# Altium footprint library QFP_Shrink_Rect_30P_Side_L.PcbLib: 12 footprints (part 1 of 2)
Each footprint in its own frame and in the unit in brackets; x right, y up, seen from the top. Pads: shape width x height; smd on the part's side, far side on the other; paste and mask are expansions set on the pad; w line width, h text height; cw(c..) or ccw(c..) is an arc to the next point about the centre after c.
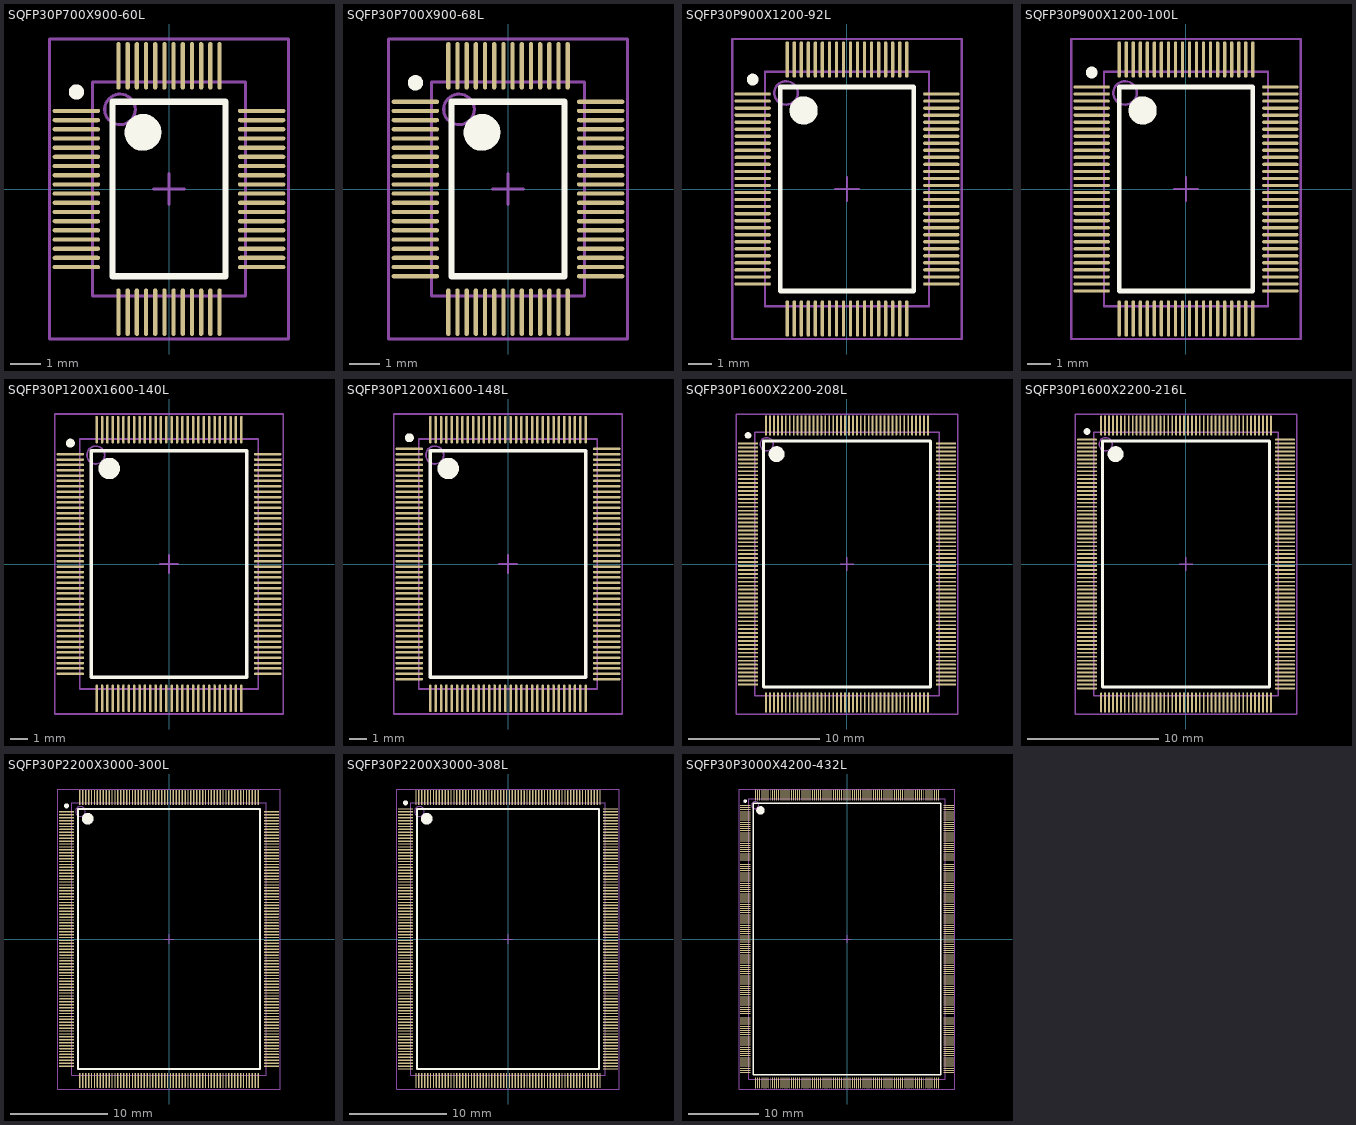
[diagram p0: the footprints below, top view; thin cyan lines are the x and y axes]

## SQFP30P700X900-60L [mm] "Shrink QFP, 60-Leads, Body 7x5 mm, Pitch 0.3mm, IPC High Density"
height 1.7
pads (60):
  oval 1.55x0.14 smd: 1(-3.025,2.55) 2(-3.025,2.25) 3(-3.025,1.95) 4(-3.025,1.65) 5(-3.025,1.35) 6(-3.025,1.05) 7(-3.025,0.75) 8(-3.025,0.45) 9(-3.025,0.15) 10(-3.025,-0.15) 11(-3.025,-0.45) 12(-3.025,-0.75) 13(-3.025,-1.05) 14(-3.025,-1.35) 15(-3.025,-1.65) 16(-3.025,-1.95) 17(-3.025,-2.25) 18(-3.025,-2.55) 31(3.025,-2.55) 32(3.025,-2.25) 33(3.025,-1.95) 34(3.025,-1.65) 35(3.025,-1.35) 36(3.025,-1.05) 37(3.025,-0.75) 38(3.025,-0.45) 39(3.025,-0.15) 40(3.025,0.15) 41(3.025,0.45) 42(3.025,0.75) 43(3.025,1.05) 44(3.025,1.35) 45(3.025,1.65) 46(3.025,1.95) 47(3.025,2.25) 48(3.025,2.55)
  oval 0.14x1.55 smd: 19(-1.65,-4.025) 20(-1.35,-4.025) 21(-1.05,-4.025) 22(-0.75,-4.025) 23(-0.45,-4.025) 24(-0.15,-4.025) 25(0.15,-4.025) 26(0.45,-4.025) 27(0.75,-4.025) 28(1.05,-4.025) 29(1.35,-4.025) 30(1.65,-4.025) 49(1.65,4.025) 50(1.35,4.025) 51(1.05,4.025) 52(0.75,4.025) 53(0.45,4.025) 54(0.15,4.025) 55(-0.15,4.025) 56(-0.45,4.025) 57(-0.75,4.025) 58(-1.05,4.025) 59(-1.35,4.025) 60(-1.65,4.025)
Top Overlay:
  circle w0.6: c-0.85,1.85 r0.3
  circle w0.25: c-3.025,3.17 r0.125
  lines w0.2: -1.85,-2.85 1.85,-2.85 1.85,2.85 -1.85,2.85 -1.85,-2.85
Mechanical 13:
  circle w0.1: c-1.6,2.6 r0.5
  lines w0.1: -2.5,-3.5 2.5,-3.5 2.5,3.5 -2.5,3.5 -2.5,-3.5
Mechanical 15:
  lines w0.1: -0.5,0 0.5,0 ; 0,-0.5 0,0.5 ; -3.9,-4.9 3.9,-4.9 3.9,4.9 -3.9,4.9 -3.9,-4.9
3D body: height 1.7, standoff 0, extent -2.5,-3.5 2.5,3.5

## SQFP30P700X900-68L [mm] "Shrink QFP, 68-Leads, Body 7x5 mm, Pitch 0.3mm, IPC High Density"
height 1.7
pads (68):
  oval 1.55x0.14 smd: 1(-3.025,2.85) 2(-3.025,2.55) 3(-3.025,2.25) 4(-3.025,1.95) 5(-3.025,1.65) 6(-3.025,1.35) 7(-3.025,1.05) 8(-3.025,0.75) 9(-3.025,0.45) 10(-3.025,0.15) 11(-3.025,-0.15) 12(-3.025,-0.45) 13(-3.025,-0.75) 14(-3.025,-1.05) 15(-3.025,-1.35) 16(-3.025,-1.65) 17(-3.025,-1.95) 18(-3.025,-2.25) 19(-3.025,-2.55) 20(-3.025,-2.85) 35(3.025,-2.85) 36(3.025,-2.55) 37(3.025,-2.25) 38(3.025,-1.95) 39(3.025,-1.65) 40(3.025,-1.35) 41(3.025,-1.05) 42(3.025,-0.75) 43(3.025,-0.45) 44(3.025,-0.15) 45(3.025,0.15) 46(3.025,0.45) 47(3.025,0.75) 48(3.025,1.05) 49(3.025,1.35) 50(3.025,1.65) 51(3.025,1.95) 52(3.025,2.25) 53(3.025,2.55) 54(3.025,2.85)
  oval 0.14x1.55 smd: 21(-1.95,-4.025) 22(-1.65,-4.025) 23(-1.35,-4.025) 24(-1.05,-4.025) 25(-0.75,-4.025) 26(-0.45,-4.025) 27(-0.15,-4.025) 28(0.15,-4.025) 29(0.45,-4.025) 30(0.75,-4.025) 31(1.05,-4.025) 32(1.35,-4.025) 33(1.65,-4.025) 34(1.95,-4.025) 55(1.95,4.025) 56(1.65,4.025) 57(1.35,4.025) 58(1.05,4.025) 59(0.75,4.025) 60(0.45,4.025) 61(0.15,4.025) 62(-0.15,4.025) 63(-0.45,4.025) 64(-0.75,4.025) 65(-1.05,4.025) 66(-1.35,4.025) 67(-1.65,4.025) 68(-1.95,4.025)
Top Overlay:
  circle w0.25: c-3.025,3.47 r0.125
  circle w0.6: c-0.85,1.85 r0.3
  lines w0.2: -1.85,-2.85 -1.85,2.85 1.85,2.85 1.85,-2.85 -1.85,-2.85
Mechanical 13:
  circle w0.1: c-1.6,2.6 r0.5
  lines w0.1: -2.5,-3.5 -2.5,3.5 2.5,3.5 2.5,-3.5 -2.5,-3.5
Mechanical 15:
  lines w0.1: -0.5,0 0.5,0 ; 0,-0.5 0,0.5 ; -3.9,-4.9 -3.9,4.9 3.9,4.9 3.9,-4.9 -3.9,-4.9
3D body: height 1.7, standoff 0, extent -2.5,-3.5 2.5,3.5

## SQFP30P900X1200-92L [mm] "Shrink QFP, 92-Leads, Body 10x7 mm, Pitch 0.3mm, IPC High Density"
height 2.2
pads (92):
  oval 1.55x0.14 smd: 1(-4.025,4.05) 2(-4.025,3.75) 3(-4.025,3.45) 4(-4.025,3.15) 5(-4.025,2.85) 6(-4.025,2.55) 7(-4.025,2.25) 8(-4.025,1.95) 9(-4.025,1.65) 10(-4.025,1.35) 11(-4.025,1.05) 12(-4.025,0.75) 13(-4.025,0.45) 14(-4.025,0.15) 15(-4.025,-0.15) 16(-4.025,-0.45) 17(-4.025,-0.75) 18(-4.025,-1.05) 19(-4.025,-1.35) 20(-4.025,-1.65) 21(-4.025,-1.95) 22(-4.025,-2.25) 23(-4.025,-2.55) 24(-4.025,-2.85) 25(-4.025,-3.15) 26(-4.025,-3.45) 27(-4.025,-3.75) 28(-4.025,-4.05) 47(4.025,-4.05) 48(4.025,-3.75) 49(4.025,-3.45) 50(4.025,-3.15) 51(4.025,-2.85) 52(4.025,-2.55) 53(4.025,-2.25) 54(4.025,-1.95) 55(4.025,-1.65) 56(4.025,-1.35) 57(4.025,-1.05) 58(4.025,-0.75) 59(4.025,-0.45) 60(4.025,-0.15) 61(4.025,0.15) 62(4.025,0.45) 63(4.025,0.75) 64(4.025,1.05) 65(4.025,1.35) 66(4.025,1.65) 67(4.025,1.95) 68(4.025,2.25) 69(4.025,2.55) 70(4.025,2.85) 71(4.025,3.15) 72(4.025,3.45) 73(4.025,3.75) 74(4.025,4.05)
  oval 0.14x1.55 smd: 29(-2.55,-5.525) 30(-2.25,-5.525) 31(-1.95,-5.525) 32(-1.65,-5.525) 33(-1.35,-5.525) 34(-1.05,-5.525) 35(-0.75,-5.525) 36(-0.45,-5.525) 37(-0.15,-5.525) 38(0.15,-5.525) 39(0.45,-5.525) 40(0.75,-5.525) 41(1.05,-5.525) 42(1.35,-5.525) 43(1.65,-5.525) 44(1.95,-5.525) 45(2.25,-5.525) 46(2.55,-5.525) 75(2.55,5.525) 76(2.25,5.525) 77(1.95,5.525) 78(1.65,5.525) 79(1.35,5.525) 80(1.05,5.525) 81(0.75,5.525) 82(0.45,5.525) 83(0.15,5.525) 84(-0.15,5.525) 85(-0.45,5.525) 86(-0.75,5.525) 87(-1.05,5.525) 88(-1.35,5.525) 89(-1.65,5.525) 90(-1.95,5.525) 91(-2.25,5.525) 92(-2.55,5.525)
Top Overlay:
  circle w0.25: c-4.025,4.67 r0.125
  circle w0.6: c-1.85,3.35 r0.3
  lines w0.2: -2.85,-4.35 -2.85,4.35 2.85,4.35 2.85,-4.35 -2.85,-4.35
Mechanical 13:
  circle w0.1: c-2.6,4.1 r0.5
  lines w0.1: -3.5,-5 -3.5,5 3.5,5 3.5,-5 -3.5,-5
Mechanical 15:
  lines w0.1: -0.5,0 0.5,0 ; 0,-0.5 0,0.5 ; -4.9,-6.4 -4.9,6.4 4.9,6.4 4.9,-6.4 -4.9,-6.4
3D body: height 2.2, standoff 0, extent -3.5,-5 3.5,5

## SQFP30P900X1200-100L [mm] "Shrink QFP, 100-Leads, Body 10x7 mm, Pitch 0.3mm, IPC High Density"
height 2.2
pads (100):
  oval 1.55x0.14 smd: 1(-4.025,4.35) 2(-4.025,4.05) 3(-4.025,3.75) 4(-4.025,3.45) 5(-4.025,3.15) 6(-4.025,2.85) 7(-4.025,2.55) 8(-4.025,2.25) 9(-4.025,1.95) 10(-4.025,1.65) 11(-4.025,1.35) 12(-4.025,1.05) 13(-4.025,0.75) 14(-4.025,0.45) 15(-4.025,0.15) 16(-4.025,-0.15) 17(-4.025,-0.45) 18(-4.025,-0.75) 19(-4.025,-1.05) 20(-4.025,-1.35) 21(-4.025,-1.65) 22(-4.025,-1.95) 23(-4.025,-2.25) 24(-4.025,-2.55) 25(-4.025,-2.85) 26(-4.025,-3.15) 27(-4.025,-3.45) 28(-4.025,-3.75) 29(-4.025,-4.05) 30(-4.025,-4.35) 51(4.025,-4.35) 52(4.025,-4.05) 53(4.025,-3.75) 54(4.025,-3.45) 55(4.025,-3.15) 56(4.025,-2.85) 57(4.025,-2.55) 58(4.025,-2.25) 59(4.025,-1.95) 60(4.025,-1.65) 61(4.025,-1.35) 62(4.025,-1.05) 63(4.025,-0.75) 64(4.025,-0.45) 65(4.025,-0.15) 66(4.025,0.15) 67(4.025,0.45) 68(4.025,0.75) 69(4.025,1.05) 70(4.025,1.35) 71(4.025,1.65) 72(4.025,1.95) 73(4.025,2.25) 74(4.025,2.55) 75(4.025,2.85) 76(4.025,3.15) 77(4.025,3.45) 78(4.025,3.75) 79(4.025,4.05) 80(4.025,4.35)
  oval 0.14x1.55 smd: 31(-2.85,-5.525) 32(-2.55,-5.525) 33(-2.25,-5.525) 34(-1.95,-5.525) 35(-1.65,-5.525) 36(-1.35,-5.525) 37(-1.05,-5.525) 38(-0.75,-5.525) 39(-0.45,-5.525) 40(-0.15,-5.525) 41(0.15,-5.525) 42(0.45,-5.525) 43(0.75,-5.525) 44(1.05,-5.525) 45(1.35,-5.525) 46(1.65,-5.525) 47(1.95,-5.525) 48(2.25,-5.525) 49(2.55,-5.525) 50(2.85,-5.525) 81(2.85,5.525) 82(2.55,5.525) 83(2.25,5.525) 84(1.95,5.525) 85(1.65,5.525) 86(1.35,5.525) 87(1.05,5.525) 88(0.75,5.525) 89(0.45,5.525) 90(0.15,5.525) 91(-0.15,5.525) 92(-0.45,5.525) 93(-0.75,5.525) 94(-1.05,5.525) 95(-1.35,5.525) 96(-1.65,5.525) 97(-1.95,5.525) 98(-2.25,5.525) 99(-2.55,5.525) 100(-2.85,5.525)
Top Overlay:
  circle w0.25: c-4.025,4.97 r0.125
  circle w0.6: c-1.85,3.35 r0.3
  lines w0.2: -2.85,-4.35 -2.85,4.35 2.85,4.35 2.85,-4.35 -2.85,-4.35
Mechanical 13:
  circle w0.1: c-2.6,4.1 r0.5
  lines w0.1: -3.5,-5 -3.5,5 3.5,5 3.5,-5 -3.5,-5
Mechanical 15:
  lines w0.1: -0.5,0 0.5,0 ; 0,-0.5 0,0.5 ; -4.9,-6.4 -4.9,6.4 4.9,6.4 4.9,-6.4 -4.9,-6.4
3D body: height 2.2, standoff 0, extent -3.5,-5 3.5,5

## SQFP30P1200X1600-140L [mm] "Shrink QFP, 140-Leads, Body 14x10 mm, Pitch 0.3mm, IPC High Density"
height 2.2
pads (140):
  oval 1.55x0.14 smd: 1(-5.525,6.15) 2(-5.525,5.85) 3(-5.525,5.55) 4(-5.525,5.25) 5(-5.525,4.95) 6(-5.525,4.65) 7(-5.525,4.35) 8(-5.525,4.05) 9(-5.525,3.75) 10(-5.525,3.45) 11(-5.525,3.15) 12(-5.525,2.85) 13(-5.525,2.55) 14(-5.525,2.25) 15(-5.525,1.95) 16(-5.525,1.65) 17(-5.525,1.35) 18(-5.525,1.05) 19(-5.525,0.75) 20(-5.525,0.45) 21(-5.525,0.15) 22(-5.525,-0.15) 23(-5.525,-0.45) 24(-5.525,-0.75) 25(-5.525,-1.05) 26(-5.525,-1.35) 27(-5.525,-1.65) 28(-5.525,-1.95) 29(-5.525,-2.25) 30(-5.525,-2.55) 31(-5.525,-2.85) 32(-5.525,-3.15) 33(-5.525,-3.45) 34(-5.525,-3.75) 35(-5.525,-4.05) 36(-5.525,-4.35) 37(-5.525,-4.65) 38(-5.525,-4.95) 39(-5.525,-5.25) 40(-5.525,-5.55) 41(-5.525,-5.85) 42(-5.525,-6.15) 71(5.525,-6.15) 72(5.525,-5.85) 73(5.525,-5.55) 74(5.525,-5.25) 75(5.525,-4.95) 76(5.525,-4.65) 77(5.525,-4.35) 78(5.525,-4.05) 79(5.525,-3.75) 80(5.525,-3.45) 81(5.525,-3.15) 82(5.525,-2.85) 83(5.525,-2.55) 84(5.525,-2.25) 85(5.525,-1.95) 86(5.525,-1.65) 87(5.525,-1.35) 88(5.525,-1.05) 89(5.525,-0.75) 90(5.525,-0.45) 91(5.525,-0.15) 92(5.525,0.15) 93(5.525,0.45) 94(5.525,0.75) 95(5.525,1.05) 96(5.525,1.35) 97(5.525,1.65) 98(5.525,1.95) 99(5.525,2.25) 100(5.525,2.55) 101(5.525,2.85) 102(5.525,3.15) 103(5.525,3.45) 104(5.525,3.75) 105(5.525,4.05) 106(5.525,4.35) 107(5.525,4.65) 108(5.525,4.95) 109(5.525,5.25) 110(5.525,5.55) 111(5.525,5.85) 112(5.525,6.15)
  oval 0.14x1.55 smd: 43(-4.05,-7.525) 44(-3.75,-7.525) 45(-3.45,-7.525) 46(-3.15,-7.525) 47(-2.85,-7.525) 48(-2.55,-7.525) 49(-2.25,-7.525) 50(-1.95,-7.525) 51(-1.65,-7.525) 52(-1.35,-7.525) 53(-1.05,-7.525) 54(-0.75,-7.525) 55(-0.45,-7.525) 56(-0.15,-7.525) 57(0.15,-7.525) 58(0.45,-7.525) 59(0.75,-7.525) 60(1.05,-7.525) 61(1.35,-7.525) 62(1.65,-7.525) 63(1.95,-7.525) 64(2.25,-7.525) 65(2.55,-7.525) 66(2.85,-7.525) 67(3.15,-7.525) 68(3.45,-7.525) 69(3.75,-7.525) 70(4.05,-7.525) 113(4.05,7.525) 114(3.75,7.525) 115(3.45,7.525) 116(3.15,7.525) 117(2.85,7.525) 118(2.55,7.525) 119(2.25,7.525) 120(1.95,7.525) 121(1.65,7.525) 122(1.35,7.525) 123(1.05,7.525) 124(0.75,7.525) 125(0.45,7.525) 126(0.15,7.525) 127(-0.15,7.525) 128(-0.45,7.525) 129(-0.75,7.525) 130(-1.05,7.525) 131(-1.35,7.525) 132(-1.65,7.525) 133(-1.95,7.525) 134(-2.25,7.525) 135(-2.55,7.525) 136(-2.85,7.525) 137(-3.15,7.525) 138(-3.45,7.525) 139(-3.75,7.525) 140(-4.05,7.525)
Top Overlay:
  circle w0.25: c-5.525,6.77 r0.125
  circle w0.6: c-3.35,5.35 r0.3
  lines w0.2: -4.35,-6.35 -4.35,6.35 4.35,6.35 4.35,-6.35 -4.35,-6.35
Mechanical 13:
  circle w0.1: c-4.1,6.1 r0.5
  lines w0.1: -5,-7 -5,7 5,7 5,-7 -5,-7
Mechanical 15:
  lines w0.1: -0.5,0 0.5,0 ; 0,-0.5 0,0.5 ; -6.4,-8.4 -6.4,8.4 6.4,8.4 6.4,-8.4 -6.4,-8.4
3D body: height 2.2, standoff 0, extent -5,-7 5,7

## SQFP30P1200X1600-148L [mm] "Shrink QFP, 148-Leads, Body 14x10 mm, Pitch 0.3mm, IPC High Density"
height 2.2
pads (148):
  oval 1.55x0.14 smd: 1(-5.525,6.45) 2(-5.525,6.15) 3(-5.525,5.85) 4(-5.525,5.55) 5(-5.525,5.25) 6(-5.525,4.95) 7(-5.525,4.65) 8(-5.525,4.35) 9(-5.525,4.05) 10(-5.525,3.75) 11(-5.525,3.45) 12(-5.525,3.15) 13(-5.525,2.85) 14(-5.525,2.55) 15(-5.525,2.25) 16(-5.525,1.95) 17(-5.525,1.65) 18(-5.525,1.35) 19(-5.525,1.05) 20(-5.525,0.75) 21(-5.525,0.45) 22(-5.525,0.15) 23(-5.525,-0.15) 24(-5.525,-0.45) 25(-5.525,-0.75) 26(-5.525,-1.05) 27(-5.525,-1.35) 28(-5.525,-1.65) 29(-5.525,-1.95) 30(-5.525,-2.25) 31(-5.525,-2.55) 32(-5.525,-2.85) 33(-5.525,-3.15) 34(-5.525,-3.45) 35(-5.525,-3.75) 36(-5.525,-4.05) 37(-5.525,-4.35) 38(-5.525,-4.65) 39(-5.525,-4.95) 40(-5.525,-5.25) 41(-5.525,-5.55) 42(-5.525,-5.85) 43(-5.525,-6.15) 44(-5.525,-6.45) 75(5.525,-6.45) 76(5.525,-6.15) 77(5.525,-5.85) 78(5.525,-5.55) 79(5.525,-5.25) 80(5.525,-4.95) 81(5.525,-4.65) 82(5.525,-4.35) 83(5.525,-4.05) 84(5.525,-3.75) 85(5.525,-3.45) 86(5.525,-3.15) 87(5.525,-2.85) 88(5.525,-2.55) 89(5.525,-2.25) 90(5.525,-1.95) 91(5.525,-1.65) 92(5.525,-1.35) 93(5.525,-1.05) 94(5.525,-0.75) 95(5.525,-0.45) 96(5.525,-0.15) 97(5.525,0.15) 98(5.525,0.45) 99(5.525,0.75) 100(5.525,1.05) 101(5.525,1.35) 102(5.525,1.65) 103(5.525,1.95) 104(5.525,2.25) 105(5.525,2.55) 106(5.525,2.85) 107(5.525,3.15) 108(5.525,3.45) 109(5.525,3.75) 110(5.525,4.05) 111(5.525,4.35) 112(5.525,4.65) 113(5.525,4.95) 114(5.525,5.25) 115(5.525,5.55) 116(5.525,5.85) 117(5.525,6.15) 118(5.525,6.45)
  oval 0.14x1.55 smd: 45(-4.35,-7.525) 46(-4.05,-7.525) 47(-3.75,-7.525) 48(-3.45,-7.525) 49(-3.15,-7.525) 50(-2.85,-7.525) 51(-2.55,-7.525) 52(-2.25,-7.525) 53(-1.95,-7.525) 54(-1.65,-7.525) 55(-1.35,-7.525) 56(-1.05,-7.525) 57(-0.75,-7.525) 58(-0.45,-7.525) 59(-0.15,-7.525) 60(0.15,-7.525) 61(0.45,-7.525) 62(0.75,-7.525) 63(1.05,-7.525) 64(1.35,-7.525) 65(1.65,-7.525) 66(1.95,-7.525) 67(2.25,-7.525) 68(2.55,-7.525) 69(2.85,-7.525) 70(3.15,-7.525) 71(3.45,-7.525) 72(3.75,-7.525) 73(4.05,-7.525) 74(4.35,-7.525) 119(4.35,7.525) 120(4.05,7.525) 121(3.75,7.525) 122(3.45,7.525) 123(3.15,7.525) 124(2.85,7.525) 125(2.55,7.525) 126(2.25,7.525) 127(1.95,7.525) 128(1.65,7.525) 129(1.35,7.525) 130(1.05,7.525) 131(0.75,7.525) 132(0.45,7.525) 133(0.15,7.525) 134(-0.15,7.525) 135(-0.45,7.525) 136(-0.75,7.525) 137(-1.05,7.525) 138(-1.35,7.525) 139(-1.65,7.525) 140(-1.95,7.525) 141(-2.25,7.525) 142(-2.55,7.525) 143(-2.85,7.525) 144(-3.15,7.525) 145(-3.45,7.525) 146(-3.75,7.525) 147(-4.05,7.525) 148(-4.35,7.525)
Top Overlay:
  circle w0.25: c-5.525,7.07 r0.125
  circle w0.6: c-3.35,5.35 r0.3
  lines w0.2: -4.35,-6.35 -4.35,6.35 4.35,6.35 4.35,-6.35 -4.35,-6.35
Mechanical 13:
  circle w0.1: c-4.1,6.1 r0.5
  lines w0.1: -5,-7 -5,7 5,7 5,-7 -5,-7
Mechanical 15:
  lines w0.1: -0.5,0 0.5,0 ; 0,-0.5 0,0.5 ; -6.4,-8.4 -6.4,8.4 6.4,8.4 6.4,-8.4 -6.4,-8.4
3D body: height 2.2, standoff 0, extent -5,-7 5,7

## SQFP30P1600X2200-208L [mm] "Shrink QFP, 208-Leads, Body 20x14 mm, Pitch 0.3mm, IPC High Density"
height 2.2
pads (208):
  oval 1.55x0.14 smd: 1(-7.525,9.15) 2(-7.525,8.85) 3(-7.525,8.55) 4(-7.525,8.25) 5(-7.525,7.95) 6(-7.525,7.65) 7(-7.525,7.35) 8(-7.525,7.05) 9(-7.525,6.75) 10(-7.525,6.45) 11(-7.525,6.15) 12(-7.525,5.85) 13(-7.525,5.55) 14(-7.525,5.25) 15(-7.525,4.95) 16(-7.525,4.65) 17(-7.525,4.35) 18(-7.525,4.05) 19(-7.525,3.75) 20(-7.525,3.45) 21(-7.525,3.15) 22(-7.525,2.85) 23(-7.525,2.55) 24(-7.525,2.25) 25(-7.525,1.95) 26(-7.525,1.65) 27(-7.525,1.35) 28(-7.525,1.05) 29(-7.525,0.75) 30(-7.525,0.45) 31(-7.525,0.15) 32(-7.525,-0.15) 33(-7.525,-0.45) 34(-7.525,-0.75) 35(-7.525,-1.05) 36(-7.525,-1.35) 37(-7.525,-1.65) 38(-7.525,-1.95) 39(-7.525,-2.25) 40(-7.525,-2.55) 41(-7.525,-2.85) 42(-7.525,-3.15) 43(-7.525,-3.45) 44(-7.525,-3.75) 45(-7.525,-4.05) 46(-7.525,-4.35) 47(-7.525,-4.65) 48(-7.525,-4.95) 49(-7.525,-5.25) 50(-7.525,-5.55) 51(-7.525,-5.85) 52(-7.525,-6.15) 53(-7.525,-6.45) 54(-7.525,-6.75) 55(-7.525,-7.05) 56(-7.525,-7.35) 57(-7.525,-7.65) 58(-7.525,-7.95) 59(-7.525,-8.25) 60(-7.525,-8.55) 61(-7.525,-8.85) 62(-7.525,-9.15) 105(7.525,-9.15) 106(7.525,-8.85) 107(7.525,-8.55) 108(7.525,-8.25) 109(7.525,-7.95) 110(7.525,-7.65) 111(7.525,-7.35) 112(7.525,-7.05) 113(7.525,-6.75) 114(7.525,-6.45) 115(7.525,-6.15) 116(7.525,-5.85) 117(7.525,-5.55) 118(7.525,-5.25) 119(7.525,-4.95) 120(7.525,-4.65) 121(7.525,-4.35) 122(7.525,-4.05) 123(7.525,-3.75) 124(7.525,-3.45) 125(7.525,-3.15) 126(7.525,-2.85) 127(7.525,-2.55) 128(7.525,-2.25) 129(7.525,-1.95) 130(7.525,-1.65) 131(7.525,-1.35) 132(7.525,-1.05) 133(7.525,-0.75) 134(7.525,-0.45) 135(7.525,-0.15) 136(7.525,0.15) 137(7.525,0.45) 138(7.525,0.75) 139(7.525,1.05) 140(7.525,1.35) 141(7.525,1.65) 142(7.525,1.95) 143(7.525,2.25) 144(7.525,2.55) 145(7.525,2.85) 146(7.525,3.15) 147(7.525,3.45) 148(7.525,3.75) 149(7.525,4.05) 150(7.525,4.35) 151(7.525,4.65) 152(7.525,4.95) 153(7.525,5.25) 154(7.525,5.55) 155(7.525,5.85) 156(7.525,6.15) 157(7.525,6.45) 158(7.525,6.75) 159(7.525,7.05) 160(7.525,7.35) 161(7.525,7.65) 162(7.525,7.95) 163(7.525,8.25) 164(7.525,8.55) 165(7.525,8.85) 166(7.525,9.15)
  oval 0.14x1.55 smd: 63(-6.15,-10.525) 64(-5.85,-10.525) 65(-5.55,-10.525) 66(-5.25,-10.525) 67(-4.95,-10.525) 68(-4.65,-10.525) 69(-4.35,-10.525) 70(-4.05,-10.525) 71(-3.75,-10.525) 72(-3.45,-10.525) 73(-3.15,-10.525) 74(-2.85,-10.525) 75(-2.55,-10.525) 76(-2.25,-10.525) 77(-1.95,-10.525) 78(-1.65,-10.525) 79(-1.35,-10.525) 80(-1.05,-10.525) 81(-0.75,-10.525) 82(-0.45,-10.525) 83(-0.15,-10.525) 84(0.15,-10.525) 85(0.45,-10.525) 86(0.75,-10.525) 87(1.05,-10.525) 88(1.35,-10.525) 89(1.65,-10.525) 90(1.95,-10.525) 91(2.25,-10.525) 92(2.55,-10.525) 93(2.85,-10.525) 94(3.15,-10.525) 95(3.45,-10.525) 96(3.75,-10.525) 97(4.05,-10.525) 98(4.35,-10.525) 99(4.65,-10.525) 100(4.95,-10.525) 101(5.25,-10.525) 102(5.55,-10.525) 103(5.85,-10.525) 104(6.15,-10.525) 167(6.15,10.525) 168(5.85,10.525) 169(5.55,10.525) 170(5.25,10.525) 171(4.95,10.525) 172(4.65,10.525) 173(4.35,10.525) 174(4.05,10.525) 175(3.75,10.525) 176(3.45,10.525) 177(3.15,10.525) 178(2.85,10.525) 179(2.55,10.525) 180(2.25,10.525) 181(1.95,10.525) 182(1.65,10.525) 183(1.35,10.525) 184(1.05,10.525) 185(0.75,10.525) 186(0.45,10.525) 187(0.15,10.525) 188(-0.15,10.525) 189(-0.45,10.525) 190(-0.75,10.525) 191(-1.05,10.525) 192(-1.35,10.525) 193(-1.65,10.525) 194(-1.95,10.525) 195(-2.25,10.525) 196(-2.55,10.525) 197(-2.85,10.525) 198(-3.15,10.525) 199(-3.45,10.525) 200(-3.75,10.525) 201(-4.05,10.525) 202(-4.35,10.525) 203(-4.65,10.525) 204(-4.95,10.525) 205(-5.25,10.525) 206(-5.55,10.525) 207(-5.85,10.525) 208(-6.15,10.525)
Top Overlay:
  circle w0.25: c-7.525,9.77 r0.125
  circle w0.6: c-5.35,8.35 r0.3
  lines w0.2: -6.35,-9.35 -6.35,9.35 6.35,9.35 6.35,-9.35 -6.35,-9.35
Mechanical 13:
  circle w0.1: c-6.1,9.1 r0.5
  lines w0.1: -7,-10 -7,10 7,10 7,-10 -7,-10
Mechanical 15:
  lines w0.1: -0.5,0 0.5,0 ; 0,-0.5 0,0.5 ; -8.4,-11.4 -8.4,11.4 8.4,11.4 8.4,-11.4 -8.4,-11.4
3D body: height 2.2, standoff 0, extent -7,-10 7,10

## SQFP30P1600X2200-216L [mm] "Shrink QFP, 216-Leads, Body 20x14 mm, Pitch 0.3mm, IPC High Density"
height 2.2
pads (216):
  oval 1.55x0.14 smd: 1(-7.525,9.45) 2(-7.525,9.15) 3(-7.525,8.85) 4(-7.525,8.55) 5(-7.525,8.25) 6(-7.525,7.95) 7(-7.525,7.65) 8(-7.525,7.35) 9(-7.525,7.05) 10(-7.525,6.75) 11(-7.525,6.45) 12(-7.525,6.15) 13(-7.525,5.85) 14(-7.525,5.55) 15(-7.525,5.25) 16(-7.525,4.95) 17(-7.525,4.65) 18(-7.525,4.35) 19(-7.525,4.05) 20(-7.525,3.75) 21(-7.525,3.45) 22(-7.525,3.15) 23(-7.525,2.85) 24(-7.525,2.55) 25(-7.525,2.25) 26(-7.525,1.95) 27(-7.525,1.65) 28(-7.525,1.35) 29(-7.525,1.05) 30(-7.525,0.75) 31(-7.525,0.45) 32(-7.525,0.15) 33(-7.525,-0.15) 34(-7.525,-0.45) 35(-7.525,-0.75) 36(-7.525,-1.05) 37(-7.525,-1.35) 38(-7.525,-1.65) 39(-7.525,-1.95) 40(-7.525,-2.25) 41(-7.525,-2.55) 42(-7.525,-2.85) 43(-7.525,-3.15) 44(-7.525,-3.45) 45(-7.525,-3.75) 46(-7.525,-4.05) 47(-7.525,-4.35) 48(-7.525,-4.65) 49(-7.525,-4.95) 50(-7.525,-5.25) 51(-7.525,-5.55) 52(-7.525,-5.85) 53(-7.525,-6.15) 54(-7.525,-6.45) 55(-7.525,-6.75) 56(-7.525,-7.05) 57(-7.525,-7.35) 58(-7.525,-7.65) 59(-7.525,-7.95) 60(-7.525,-8.25) 61(-7.525,-8.55) 62(-7.525,-8.85) 63(-7.525,-9.15) 64(-7.525,-9.45) 109(7.525,-9.45) 110(7.525,-9.15) 111(7.525,-8.85) 112(7.525,-8.55) 113(7.525,-8.25) 114(7.525,-7.95) 115(7.525,-7.65) 116(7.525,-7.35) 117(7.525,-7.05) 118(7.525,-6.75) 119(7.525,-6.45) 120(7.525,-6.15) 121(7.525,-5.85) 122(7.525,-5.55) 123(7.525,-5.25) 124(7.525,-4.95) 125(7.525,-4.65) 126(7.525,-4.35) 127(7.525,-4.05) 128(7.525,-3.75) 129(7.525,-3.45) 130(7.525,-3.15) 131(7.525,-2.85) 132(7.525,-2.55) 133(7.525,-2.25) 134(7.525,-1.95) 135(7.525,-1.65) 136(7.525,-1.35) 137(7.525,-1.05) 138(7.525,-0.75) 139(7.525,-0.45) 140(7.525,-0.15) 141(7.525,0.15) 142(7.525,0.45) 143(7.525,0.75) 144(7.525,1.05) 145(7.525,1.35) 146(7.525,1.65) 147(7.525,1.95) 148(7.525,2.25) 149(7.525,2.55) 150(7.525,2.85) 151(7.525,3.15) 152(7.525,3.45) 153(7.525,3.75) 154(7.525,4.05) 155(7.525,4.35) 156(7.525,4.65) 157(7.525,4.95) 158(7.525,5.25) 159(7.525,5.55) 160(7.525,5.85) 161(7.525,6.15) 162(7.525,6.45) 163(7.525,6.75) 164(7.525,7.05) 165(7.525,7.35) 166(7.525,7.65) 167(7.525,7.95) 168(7.525,8.25) 169(7.525,8.55) 170(7.525,8.85) 171(7.525,9.15) 172(7.525,9.45)
  oval 0.14x1.55 smd: 65(-6.45,-10.525) 66(-6.15,-10.525) 67(-5.85,-10.525) 68(-5.55,-10.525) 69(-5.25,-10.525) 70(-4.95,-10.525) 71(-4.65,-10.525) 72(-4.35,-10.525) 73(-4.05,-10.525) 74(-3.75,-10.525) 75(-3.45,-10.525) 76(-3.15,-10.525) 77(-2.85,-10.525) 78(-2.55,-10.525) 79(-2.25,-10.525) 80(-1.95,-10.525) 81(-1.65,-10.525) 82(-1.35,-10.525) 83(-1.05,-10.525) 84(-0.75,-10.525) 85(-0.45,-10.525) 86(-0.15,-10.525) 87(0.15,-10.525) 88(0.45,-10.525) 89(0.75,-10.525) 90(1.05,-10.525) 91(1.35,-10.525) 92(1.65,-10.525) 93(1.95,-10.525) 94(2.25,-10.525) 95(2.55,-10.525) 96(2.85,-10.525) 97(3.15,-10.525) 98(3.45,-10.525) 99(3.75,-10.525) 100(4.05,-10.525) 101(4.35,-10.525) 102(4.65,-10.525) 103(4.95,-10.525) 104(5.25,-10.525) 105(5.55,-10.525) 106(5.85,-10.525) 107(6.15,-10.525) 108(6.45,-10.525) 173(6.45,10.525) 174(6.15,10.525) 175(5.85,10.525) 176(5.55,10.525) 177(5.25,10.525) 178(4.95,10.525) 179(4.65,10.525) 180(4.35,10.525) 181(4.05,10.525) 182(3.75,10.525) 183(3.45,10.525) 184(3.15,10.525) 185(2.85,10.525) 186(2.55,10.525) 187(2.25,10.525) 188(1.95,10.525) 189(1.65,10.525) 190(1.35,10.525) 191(1.05,10.525) 192(0.75,10.525) 193(0.45,10.525) 194(0.15,10.525) 195(-0.15,10.525) 196(-0.45,10.525) 197(-0.75,10.525) 198(-1.05,10.525) 199(-1.35,10.525) 200(-1.65,10.525) 201(-1.95,10.525) 202(-2.25,10.525) 203(-2.55,10.525) 204(-2.85,10.525) 205(-3.15,10.525) 206(-3.45,10.525) 207(-3.75,10.525) 208(-4.05,10.525) 209(-4.35,10.525) 210(-4.65,10.525) 211(-4.95,10.525) 212(-5.25,10.525) 213(-5.55,10.525) 214(-5.85,10.525) 215(-6.15,10.525) 216(-6.45,10.525)
Top Overlay:
  circle w0.25: c-7.525,10.07 r0.125
  circle w0.6: c-5.35,8.35 r0.3
  lines w0.2: -6.35,-9.35 -6.35,9.35 6.35,9.35 6.35,-9.35 -6.35,-9.35
Mechanical 13:
  circle w0.1: c-6.1,9.1 r0.5
  lines w0.1: -7,-10 -7,10 7,10 7,-10 -7,-10
Mechanical 15:
  lines w0.1: -0.5,0 0.5,0 ; 0,-0.5 0,0.5 ; -8.4,-11.4 -8.4,11.4 8.4,11.4 8.4,-11.4 -8.4,-11.4
3D body: height 2.2, standoff 0, extent -7,-10 7,10

## SQFP30P2200X3000-300L [mm] "Shrink QFP, 300-Leads, Body 28x20 mm, Pitch 0.3mm, IPC High Density"
height 3.75
pads (300):
  oval 1.55x0.14 smd: 1(-10.525,13.05) 2(-10.525,12.75) 3(-10.525,12.45) 4(-10.525,12.15) 5(-10.525,11.85) 6(-10.525,11.55) 7(-10.525,11.25) 8(-10.525,10.95) 9(-10.525,10.65) 10(-10.525,10.35) 11(-10.525,10.05) 12(-10.525,9.75) 13(-10.525,9.45) 14(-10.525,9.15) 15(-10.525,8.85) 16(-10.525,8.55) 17(-10.525,8.25) 18(-10.525,7.95) 19(-10.525,7.65) 20(-10.525,7.35) 21(-10.525,7.05) 22(-10.525,6.75) 23(-10.525,6.45) 24(-10.525,6.15) 25(-10.525,5.85) 26(-10.525,5.55) 27(-10.525,5.25) 28(-10.525,4.95) 29(-10.525,4.65) 30(-10.525,4.35) 31(-10.525,4.05) 32(-10.525,3.75) 33(-10.525,3.45) 34(-10.525,3.15) 35(-10.525,2.85) 36(-10.525,2.55) 37(-10.525,2.25) 38(-10.525,1.95) 39(-10.525,1.65) 40(-10.525,1.35) 41(-10.525,1.05) 42(-10.525,0.75) 43(-10.525,0.45) 44(-10.525,0.15) 45(-10.525,-0.15) 46(-10.525,-0.45) 47(-10.525,-0.75) 48(-10.525,-1.05) 49(-10.525,-1.35) 50(-10.525,-1.65) 51(-10.525,-1.95) 52(-10.525,-2.25) 53(-10.525,-2.55) 54(-10.525,-2.85) 55(-10.525,-3.15) 56(-10.525,-3.45) 57(-10.525,-3.75) 58(-10.525,-4.05) 59(-10.525,-4.35) 60(-10.525,-4.65) 61(-10.525,-4.95) 62(-10.525,-5.25) 63(-10.525,-5.55) 64(-10.525,-5.85) 65(-10.525,-6.15) 66(-10.525,-6.45) 67(-10.525,-6.75) 68(-10.525,-7.05) 69(-10.525,-7.35) 70(-10.525,-7.65) 71(-10.525,-7.95) 72(-10.525,-8.25) 73(-10.525,-8.55) 74(-10.525,-8.85) 75(-10.525,-9.15) 76(-10.525,-9.45) 77(-10.525,-9.75) 78(-10.525,-10.05) 79(-10.525,-10.35) 80(-10.525,-10.65) 81(-10.525,-10.95) 82(-10.525,-11.25) 83(-10.525,-11.55) 84(-10.525,-11.85) 85(-10.525,-12.15) 86(-10.525,-12.45) 87(-10.525,-12.75) 88(-10.525,-13.05) 151(10.525,-13.05) 152(10.525,-12.75) 153(10.525,-12.45) 154(10.525,-12.15) 155(10.525,-11.85) 156(10.525,-11.55) 157(10.525,-11.25) 158(10.525,-10.95) 159(10.525,-10.65) 160(10.525,-10.35) 161(10.525,-10.05) 162(10.525,-9.75) 163(10.525,-9.45) 164(10.525,-9.15) 165(10.525,-8.85) 166(10.525,-8.55) 167(10.525,-8.25) 168(10.525,-7.95) 169(10.525,-7.65) 170(10.525,-7.35) 171(10.525,-7.05) 172(10.525,-6.75) 173(10.525,-6.45) 174(10.525,-6.15) 175(10.525,-5.85) 176(10.525,-5.55) 177(10.525,-5.25) 178(10.525,-4.95) 179(10.525,-4.65) 180(10.525,-4.35) 181(10.525,-4.05) 182(10.525,-3.75) 183(10.525,-3.45) 184(10.525,-3.15) 185(10.525,-2.85) 186(10.525,-2.55) 187(10.525,-2.25) 188(10.525,-1.95) 189(10.525,-1.65) 190(10.525,-1.35) 191(10.525,-1.05) 192(10.525,-0.75) 193(10.525,-0.45) 194(10.525,-0.15) 195(10.525,0.15) 196(10.525,0.45) 197(10.525,0.75) 198(10.525,1.05) 199(10.525,1.35) 200(10.525,1.65) 201(10.525,1.95) 202(10.525,2.25) 203(10.525,2.55) 204(10.525,2.85) 205(10.525,3.15) 206(10.525,3.45) 207(10.525,3.75) 208(10.525,4.05) 209(10.525,4.35) 210(10.525,4.65) 211(10.525,4.95) 212(10.525,5.25) 213(10.525,5.55) 214(10.525,5.85) 215(10.525,6.15) 216(10.525,6.45) 217(10.525,6.75) 218(10.525,7.05) 219(10.525,7.35) 220(10.525,7.65) 221(10.525,7.95) 222(10.525,8.25) 223(10.525,8.55) 224(10.525,8.85) 225(10.525,9.15) 226(10.525,9.45) 227(10.525,9.75) 228(10.525,10.05) 229(10.525,10.35) 230(10.525,10.65) 231(10.525,10.95) 232(10.525,11.25) 233(10.525,11.55) 234(10.525,11.85) 235(10.525,12.15) 236(10.525,12.45) 237(10.525,12.75) 238(10.525,13.05)
  oval 0.14x1.55 smd: 89(-9.15,-14.525) 90(-8.85,-14.525) 91(-8.55,-14.525) 92(-8.25,-14.525) 93(-7.95,-14.525) 94(-7.65,-14.525) 95(-7.35,-14.525) 96(-7.05,-14.525) 97(-6.75,-14.525) 98(-6.45,-14.525) 99(-6.15,-14.525) 100(-5.85,-14.525) 101(-5.55,-14.525) 102(-5.25,-14.525) 103(-4.95,-14.525) 104(-4.65,-14.525) 105(-4.35,-14.525) 106(-4.05,-14.525) 107(-3.75,-14.525) 108(-3.45,-14.525) 109(-3.15,-14.525) 110(-2.85,-14.525) 111(-2.55,-14.525) 112(-2.25,-14.525) 113(-1.95,-14.525) 114(-1.65,-14.525) 115(-1.35,-14.525) 116(-1.05,-14.525) 117(-0.75,-14.525) 118(-0.45,-14.525) 119(-0.15,-14.525) 120(0.15,-14.525) 121(0.45,-14.525) 122(0.75,-14.525) 123(1.05,-14.525) 124(1.35,-14.525) 125(1.65,-14.525) 126(1.95,-14.525) 127(2.25,-14.525) 128(2.55,-14.525) 129(2.85,-14.525) 130(3.15,-14.525) 131(3.45,-14.525) 132(3.75,-14.525) 133(4.05,-14.525) 134(4.35,-14.525) 135(4.65,-14.525) 136(4.95,-14.525) 137(5.25,-14.525) 138(5.55,-14.525) 139(5.85,-14.525) 140(6.15,-14.525) 141(6.45,-14.525) 142(6.75,-14.525) 143(7.05,-14.525) 144(7.35,-14.525) 145(7.65,-14.525) 146(7.95,-14.525) 147(8.25,-14.525) 148(8.55,-14.525) 149(8.85,-14.525) 150(9.15,-14.525) 239(9.15,14.525) 240(8.85,14.525) 241(8.55,14.525) 242(8.25,14.525) 243(7.95,14.525) 244(7.65,14.525) 245(7.35,14.525) 246(7.05,14.525) 247(6.75,14.525) 248(6.45,14.525) 249(6.15,14.525) 250(5.85,14.525) 251(5.55,14.525) 252(5.25,14.525) 253(4.95,14.525) 254(4.65,14.525) 255(4.35,14.525) 256(4.05,14.525) 257(3.75,14.525) 258(3.45,14.525) 259(3.15,14.525) 260(2.85,14.525) 261(2.55,14.525) 262(2.25,14.525) 263(1.95,14.525) 264(1.65,14.525) 265(1.35,14.525) 266(1.05,14.525) 267(0.75,14.525) 268(0.45,14.525) 269(0.15,14.525) 270(-0.15,14.525) 271(-0.45,14.525) 272(-0.75,14.525) 273(-1.05,14.525) 274(-1.35,14.525) 275(-1.65,14.525) 276(-1.95,14.525) 277(-2.25,14.525) 278(-2.55,14.525) 279(-2.85,14.525) 280(-3.15,14.525) 281(-3.45,14.525) 282(-3.75,14.525) 283(-4.05,14.525) 284(-4.35,14.525) 285(-4.65,14.525) 286(-4.95,14.525) 287(-5.25,14.525) 288(-5.55,14.525) 289(-5.85,14.525) 290(-6.15,14.525) 291(-6.45,14.525) 292(-6.75,14.525) 293(-7.05,14.525) 294(-7.35,14.525) 295(-7.65,14.525) 296(-7.95,14.525) 297(-8.25,14.525) 298(-8.55,14.525) 299(-8.85,14.525) 300(-9.15,14.525)
Top Overlay:
  circle w0.25: c-10.525,13.67 r0.125
  circle w0.6: c-8.35,12.35 r0.3
  lines w0.2: -9.35,-13.35 -9.35,13.35 9.35,13.35 9.35,-13.35 -9.35,-13.35
Mechanical 13:
  circle w0.1: c-9.1,13.1 r0.5
  lines w0.1: -10,-14 -10,14 10,14 10,-14 -10,-14
Mechanical 15:
  lines w0.1: -0.5,0 0.5,0 ; 0,-0.5 0,0.5 ; -11.4,-15.4 -11.4,15.4 11.4,15.4 11.4,-15.4 -11.4,-15.4
3D body: height 3.75, standoff 0, extent -10,-14 10,14

## SQFP30P2200X3000-308L [mm] "Shrink QFP, 308-Leads, Body 28x20 mm, Pitch 0.3mm, IPC High Density"
height 3.75
pads (308):
  oval 1.55x0.14 smd: 1(-10.525,13.35) 2(-10.525,13.05) 3(-10.525,12.75) 4(-10.525,12.45) 5(-10.525,12.15) 6(-10.525,11.85) 7(-10.525,11.55) 8(-10.525,11.25) 9(-10.525,10.95) 10(-10.525,10.65) 11(-10.525,10.35) 12(-10.525,10.05) 13(-10.525,9.75) 14(-10.525,9.45) 15(-10.525,9.15) 16(-10.525,8.85) 17(-10.525,8.55) 18(-10.525,8.25) 19(-10.525,7.95) 20(-10.525,7.65) 21(-10.525,7.35) 22(-10.525,7.05) 23(-10.525,6.75) 24(-10.525,6.45) 25(-10.525,6.15) 26(-10.525,5.85) 27(-10.525,5.55) 28(-10.525,5.25) 29(-10.525,4.95) 30(-10.525,4.65) 31(-10.525,4.35) 32(-10.525,4.05) 33(-10.525,3.75) 34(-10.525,3.45) 35(-10.525,3.15) 36(-10.525,2.85) 37(-10.525,2.55) 38(-10.525,2.25) 39(-10.525,1.95) 40(-10.525,1.65) 41(-10.525,1.35) 42(-10.525,1.05) 43(-10.525,0.75) 44(-10.525,0.45) 45(-10.525,0.15) 46(-10.525,-0.15) 47(-10.525,-0.45) 48(-10.525,-0.75) 49(-10.525,-1.05) 50(-10.525,-1.35) 51(-10.525,-1.65) 52(-10.525,-1.95) 53(-10.525,-2.25) 54(-10.525,-2.55) 55(-10.525,-2.85) 56(-10.525,-3.15) 57(-10.525,-3.45) 58(-10.525,-3.75) 59(-10.525,-4.05) 60(-10.525,-4.35) 61(-10.525,-4.65) 62(-10.525,-4.95) 63(-10.525,-5.25) 64(-10.525,-5.55) 65(-10.525,-5.85) 66(-10.525,-6.15) 67(-10.525,-6.45) 68(-10.525,-6.75) 69(-10.525,-7.05) 70(-10.525,-7.35) 71(-10.525,-7.65) 72(-10.525,-7.95) 73(-10.525,-8.25) 74(-10.525,-8.55) 75(-10.525,-8.85) 76(-10.525,-9.15) 77(-10.525,-9.45) 78(-10.525,-9.75) 79(-10.525,-10.05) 80(-10.525,-10.35) 81(-10.525,-10.65) 82(-10.525,-10.95) 83(-10.525,-11.25) 84(-10.525,-11.55) 85(-10.525,-11.85) 86(-10.525,-12.15) 87(-10.525,-12.45) 88(-10.525,-12.75) 89(-10.525,-13.05) 90(-10.525,-13.35) 155(10.525,-13.35) 156(10.525,-13.05) 157(10.525,-12.75) 158(10.525,-12.45) 159(10.525,-12.15) 160(10.525,-11.85) 161(10.525,-11.55) 162(10.525,-11.25) 163(10.525,-10.95) 164(10.525,-10.65) 165(10.525,-10.35) 166(10.525,-10.05) 167(10.525,-9.75) 168(10.525,-9.45) 169(10.525,-9.15) 170(10.525,-8.85) 171(10.525,-8.55) 172(10.525,-8.25) 173(10.525,-7.95) 174(10.525,-7.65) 175(10.525,-7.35) 176(10.525,-7.05) 177(10.525,-6.75) 178(10.525,-6.45) 179(10.525,-6.15) 180(10.525,-5.85) 181(10.525,-5.55) 182(10.525,-5.25) 183(10.525,-4.95) 184(10.525,-4.65) 185(10.525,-4.35) 186(10.525,-4.05) 187(10.525,-3.75) 188(10.525,-3.45) 189(10.525,-3.15) 190(10.525,-2.85) 191(10.525,-2.55) 192(10.525,-2.25) 193(10.525,-1.95) 194(10.525,-1.65) 195(10.525,-1.35) 196(10.525,-1.05) 197(10.525,-0.75) 198(10.525,-0.45) 199(10.525,-0.15) 200(10.525,0.15) 201(10.525,0.45) 202(10.525,0.75) 203(10.525,1.05) 204(10.525,1.35) 205(10.525,1.65) 206(10.525,1.95) 207(10.525,2.25) 208(10.525,2.55) 209(10.525,2.85) 210(10.525,3.15) 211(10.525,3.45) 212(10.525,3.75) 213(10.525,4.05) 214(10.525,4.35) 215(10.525,4.65) 216(10.525,4.95) 217(10.525,5.25) 218(10.525,5.55) 219(10.525,5.85) 220(10.525,6.15) 221(10.525,6.45) 222(10.525,6.75) 223(10.525,7.05) 224(10.525,7.35) 225(10.525,7.65) 226(10.525,7.95) 227(10.525,8.25) 228(10.525,8.55) 229(10.525,8.85) 230(10.525,9.15) 231(10.525,9.45) 232(10.525,9.75) 233(10.525,10.05) 234(10.525,10.35) 235(10.525,10.65) 236(10.525,10.95) 237(10.525,11.25) 238(10.525,11.55) 239(10.525,11.85) 240(10.525,12.15) 241(10.525,12.45) 242(10.525,12.75) 243(10.525,13.05) 244(10.525,13.35)
  oval 0.14x1.55 smd: 91(-9.45,-14.525) 92(-9.15,-14.525) 93(-8.85,-14.525) 94(-8.55,-14.525) 95(-8.25,-14.525) 96(-7.95,-14.525) 97(-7.65,-14.525) 98(-7.35,-14.525) 99(-7.05,-14.525) 100(-6.75,-14.525) 101(-6.45,-14.525) 102(-6.15,-14.525) 103(-5.85,-14.525) 104(-5.55,-14.525) 105(-5.25,-14.525) 106(-4.95,-14.525) 107(-4.65,-14.525) 108(-4.35,-14.525) 109(-4.05,-14.525) 110(-3.75,-14.525) 111(-3.45,-14.525) 112(-3.15,-14.525) 113(-2.85,-14.525) 114(-2.55,-14.525) 115(-2.25,-14.525) 116(-1.95,-14.525) 117(-1.65,-14.525) 118(-1.35,-14.525) 119(-1.05,-14.525) 120(-0.75,-14.525) 121(-0.45,-14.525) 122(-0.15,-14.525) 123(0.15,-14.525) 124(0.45,-14.525) 125(0.75,-14.525) 126(1.05,-14.525) 127(1.35,-14.525) 128(1.65,-14.525) 129(1.95,-14.525) 130(2.25,-14.525) 131(2.55,-14.525) 132(2.85,-14.525) 133(3.15,-14.525) 134(3.45,-14.525) 135(3.75,-14.525) 136(4.05,-14.525) 137(4.35,-14.525) 138(4.65,-14.525) 139(4.95,-14.525) 140(5.25,-14.525) 141(5.55,-14.525) 142(5.85,-14.525) 143(6.15,-14.525) 144(6.45,-14.525) 145(6.75,-14.525) 146(7.05,-14.525) 147(7.35,-14.525) 148(7.65,-14.525) 149(7.95,-14.525) 150(8.25,-14.525) 151(8.55,-14.525) 152(8.85,-14.525) 153(9.15,-14.525) 154(9.45,-14.525) 245(9.45,14.525) 246(9.15,14.525) 247(8.85,14.525) 248(8.55,14.525) 249(8.25,14.525) 250(7.95,14.525) 251(7.65,14.525) 252(7.35,14.525) 253(7.05,14.525) 254(6.75,14.525) 255(6.45,14.525) 256(6.15,14.525) 257(5.85,14.525) 258(5.55,14.525) 259(5.25,14.525) 260(4.95,14.525) 261(4.65,14.525) 262(4.35,14.525) 263(4.05,14.525) 264(3.75,14.525) 265(3.45,14.525) 266(3.15,14.525) 267(2.85,14.525) 268(2.55,14.525) 269(2.25,14.525) 270(1.95,14.525) 271(1.65,14.525) 272(1.35,14.525) 273(1.05,14.525) 274(0.75,14.525) 275(0.45,14.525) 276(0.15,14.525) 277(-0.15,14.525) 278(-0.45,14.525) 279(-0.75,14.525) 280(-1.05,14.525) 281(-1.35,14.525) 282(-1.65,14.525) 283(-1.95,14.525) 284(-2.25,14.525) 285(-2.55,14.525) 286(-2.85,14.525) 287(-3.15,14.525) 288(-3.45,14.525) 289(-3.75,14.525) 290(-4.05,14.525) 291(-4.35,14.525) 292(-4.65,14.525) 293(-4.95,14.525) 294(-5.25,14.525) 295(-5.55,14.525) 296(-5.85,14.525) 297(-6.15,14.525) 298(-6.45,14.525) 299(-6.75,14.525) 300(-7.05,14.525) 301(-7.35,14.525) 302(-7.65,14.525) 303(-7.95,14.525) 304(-8.25,14.525) 305(-8.55,14.525) 306(-8.85,14.525) 307(-9.15,14.525) 308(-9.45,14.525)
Top Overlay:
  circle w0.25: c-10.525,13.97 r0.125
  circle w0.6: c-8.35,12.35 r0.3
  lines w0.2: -9.35,-13.35 -9.35,13.35 9.35,13.35 9.35,-13.35 -9.35,-13.35
Mechanical 13:
  circle w0.1: c-9.1,13.1 r0.5
  lines w0.1: -10,-14 -10,14 10,14 10,-14 -10,-14
Mechanical 15:
  lines w0.1: -0.5,0 0.5,0 ; 0,-0.5 0,0.5 ; -11.4,-15.4 -11.4,15.4 11.4,15.4 11.4,-15.4 -11.4,-15.4
3D body: height 3.75, standoff 0, extent -10,-14 10,14

## SQFP30P3000X4200-432L [mm] "Shrink QFP, 432-Leads, Body 40x28 mm, Pitch 0.3mm, IPC High Density"
height 4.2
pads (432):
  oval 1.55x0.14 smd: 1(-14.525,19.05) 2(-14.525,18.75) 3(-14.525,18.45) 4(-14.525,18.15) 5(-14.525,17.85) 6(-14.525,17.55) 7(-14.525,17.25) 8(-14.525,16.95) 9(-14.525,16.65) 10(-14.525,16.35) 11(-14.525,16.05) 12(-14.525,15.75) 13(-14.525,15.45) 14(-14.525,15.15) 15(-14.525,14.85) 16(-14.525,14.55) 17(-14.525,14.25) 18(-14.525,13.95) 19(-14.525,13.65) 20(-14.525,13.35) 21(-14.525,13.05) 22(-14.525,12.75) 23(-14.525,12.45) 24(-14.525,12.15) 25(-14.525,11.85) 26(-14.525,11.55) 27(-14.525,11.25) 28(-14.525,10.95) 29(-14.525,10.65) 30(-14.525,10.35) 31(-14.525,10.05) 32(-14.525,9.75) 33(-14.525,9.45) 34(-14.525,9.15) 35(-14.525,8.85) 36(-14.525,8.55) 37(-14.525,8.25) 38(-14.525,7.95) 39(-14.525,7.65) 40(-14.525,7.35) 41(-14.525,7.05) 42(-14.525,6.75) 43(-14.525,6.45) 44(-14.525,6.15) 45(-14.525,5.85) 46(-14.525,5.55) 47(-14.525,5.25) 48(-14.525,4.95) 49(-14.525,4.65) 50(-14.525,4.35) 51(-14.525,4.05) 52(-14.525,3.75) 53(-14.525,3.45) 54(-14.525,3.15) 55(-14.525,2.85) 56(-14.525,2.55) 57(-14.525,2.25) 58(-14.525,1.95) 59(-14.525,1.65) 60(-14.525,1.35) 61(-14.525,1.05) 62(-14.525,0.75) 63(-14.525,0.45) 64(-14.525,0.15) 65(-14.525,-0.15) 66(-14.525,-0.45) 67(-14.525,-0.75) 68(-14.525,-1.05) 69(-14.525,-1.35) 70(-14.525,-1.65) 71(-14.525,-1.95) 72(-14.525,-2.25) 73(-14.525,-2.55) 74(-14.525,-2.85) 75(-14.525,-3.15) 76(-14.525,-3.45) 77(-14.525,-3.75) 78(-14.525,-4.05) 79(-14.525,-4.35) 80(-14.525,-4.65) 81(-14.525,-4.95) 82(-14.525,-5.25) 83(-14.525,-5.55) 84(-14.525,-5.85) 85(-14.525,-6.15) 86(-14.525,-6.45) 87(-14.525,-6.75) 88(-14.525,-7.05) 89(-14.525,-7.35) 90(-14.525,-7.65) 91(-14.525,-7.95) 92(-14.525,-8.25) 93(-14.525,-8.55) 94(-14.525,-8.85) 95(-14.525,-9.15) 96(-14.525,-9.45) 97(-14.525,-9.75) 98(-14.525,-10.05) 99(-14.525,-10.35) 100(-14.525,-10.65) 101(-14.525,-10.95) 102(-14.525,-11.25) 103(-14.525,-11.55) 104(-14.525,-11.85) 105(-14.525,-12.15) 106(-14.525,-12.45) 107(-14.525,-12.75) 108(-14.525,-13.05) 109(-14.525,-13.35) 110(-14.525,-13.65) 111(-14.525,-13.95) 112(-14.525,-14.25) 113(-14.525,-14.55) 114(-14.525,-14.85) 115(-14.525,-15.15) 116(-14.525,-15.45) 117(-14.525,-15.75) 118(-14.525,-16.05) 119(-14.525,-16.35) 120(-14.525,-16.65) 121(-14.525,-16.95) 122(-14.525,-17.25) 123(-14.525,-17.55) 124(-14.525,-17.85) 125(-14.525,-18.15) 126(-14.525,-18.45) 127(-14.525,-18.75) 128(-14.525,-19.05) 217(14.525,-19.05) 218(14.525,-18.75) 219(14.525,-18.45) 220(14.525,-18.15) 221(14.525,-17.85) 222(14.525,-17.55) 223(14.525,-17.25) 224(14.525,-16.95) 225(14.525,-16.65) 226(14.525,-16.35) 227(14.525,-16.05) 228(14.525,-15.75) 229(14.525,-15.45) 230(14.525,-15.15) 231(14.525,-14.85) 232(14.525,-14.55) 233(14.525,-14.25) 234(14.525,-13.95) 235(14.525,-13.65) 236(14.525,-13.35) 237(14.525,-13.05) 238(14.525,-12.75) 239(14.525,-12.45) 240(14.525,-12.15) 241(14.525,-11.85) 242(14.525,-11.55) 243(14.525,-11.25) 244(14.525,-10.95) 245(14.525,-10.65) 246(14.525,-10.35) 247(14.525,-10.05) 248(14.525,-9.75) 249(14.525,-9.45) 250(14.525,-9.15) 251(14.525,-8.85) 252(14.525,-8.55) 253(14.525,-8.25) 254(14.525,-7.95) 255(14.525,-7.65) 256(14.525,-7.35) 257(14.525,-7.05) 258(14.525,-6.75) 259(14.525,-6.45) 260(14.525,-6.15) 261(14.525,-5.85) 262(14.525,-5.55) 263(14.525,-5.25) 264(14.525,-4.95) 265(14.525,-4.65) 266(14.525,-4.35) 267(14.525,-4.05) 268(14.525,-3.75) 269(14.525,-3.45) 270(14.525,-3.15) 271(14.525,-2.85) 272(14.525,-2.55) 273(14.525,-2.25) 274(14.525,-1.95) 275(14.525,-1.65) 276(14.525,-1.35) 277(14.525,-1.05) 278(14.525,-0.75) 279(14.525,-0.45) 280(14.525,-0.15) 281(14.525,0.15) 282(14.525,0.45) 283(14.525,0.75) 284(14.525,1.05) 285(14.525,1.35) 286(14.525,1.65) 287(14.525,1.95) 288(14.525,2.25) 289(14.525,2.55) 290(14.525,2.85) 291(14.525,3.15) 292(14.525,3.45) 293(14.525,3.75) 294(14.525,4.05) 295(14.525,4.35) 296(14.525,4.65) 297(14.525,4.95) 298(14.525,5.25) 299(14.525,5.55) 300(14.525,5.85) 301(14.525,6.15) 302(14.525,6.45) 303(14.525,6.75) 304(14.525,7.05) 305(14.525,7.35) 306(14.525,7.65) 307(14.525,7.95) 308(14.525,8.25) 309(14.525,8.55) 310(14.525,8.85) 311(14.525,9.15) 312(14.525,9.45) 313(14.525,9.75) 314(14.525,10.05) 315(14.525,10.35) 316(14.525,10.65) 317(14.525,10.95) 318(14.525,11.25) 319(14.525,11.55) 320(14.525,11.85) 321(14.525,12.15) 322(14.525,12.45) 323(14.525,12.75) 324(14.525,13.05) 325(14.525,13.35) 326(14.525,13.65) 327(14.525,13.95) 328(14.525,14.25) 329(14.525,14.55) 330(14.525,14.85) 331(14.525,15.15) 332(14.525,15.45) 333(14.525,15.75) 334(14.525,16.05) 335(14.525,16.35) 336(14.525,16.65) 337(14.525,16.95) 338(14.525,17.25) 339(14.525,17.55) 340(14.525,17.85) 341(14.525,18.15) 342(14.525,18.45) 343(14.525,18.75) 344(14.525,19.05)
  oval 0.14x1.55 smd: 129(-13.05,-20.525) 130(-12.75,-20.525) 131(-12.45,-20.525) 132(-12.15,-20.525) 133(-11.85,-20.525) 134(-11.55,-20.525) 135(-11.25,-20.525) 136(-10.95,-20.525) 137(-10.65,-20.525) 138(-10.35,-20.525) 139(-10.05,-20.525) 140(-9.75,-20.525) 141(-9.45,-20.525) 142(-9.15,-20.525) 143(-8.85,-20.525) 144(-8.55,-20.525) 145(-8.25,-20.525) 146(-7.95,-20.525) 147(-7.65,-20.525) 148(-7.35,-20.525) 149(-7.05,-20.525) 150(-6.75,-20.525) 151(-6.45,-20.525) 152(-6.15,-20.525) 153(-5.85,-20.525) 154(-5.55,-20.525) 155(-5.25,-20.525) 156(-4.95,-20.525) 157(-4.65,-20.525) 158(-4.35,-20.525) 159(-4.05,-20.525) 160(-3.75,-20.525) 161(-3.45,-20.525) 162(-3.15,-20.525) 163(-2.85,-20.525) 164(-2.55,-20.525) 165(-2.25,-20.525) 166(-1.95,-20.525) 167(-1.65,-20.525) 168(-1.35,-20.525) 169(-1.05,-20.525) 170(-0.75,-20.525) 171(-0.45,-20.525) 172(-0.15,-20.525) 173(0.15,-20.525) 174(0.45,-20.525) 175(0.75,-20.525) 176(1.05,-20.525) 177(1.35,-20.525) 178(1.65,-20.525) 179(1.95,-20.525) 180(2.25,-20.525) 181(2.55,-20.525) 182(2.85,-20.525) 183(3.15,-20.525) 184(3.45,-20.525) 185(3.75,-20.525) 186(4.05,-20.525) 187(4.35,-20.525) 188(4.65,-20.525) 189(4.95,-20.525) 190(5.25,-20.525) 191(5.55,-20.525) 192(5.85,-20.525) 193(6.15,-20.525) 194(6.45,-20.525) 195(6.75,-20.525) 196(7.05,-20.525) 197(7.35,-20.525) 198(7.65,-20.525) 199(7.95,-20.525) 200(8.25,-20.525) 201(8.55,-20.525) 202(8.85,-20.525) 203(9.15,-20.525) 204(9.45,-20.525) 205(9.75,-20.525) 206(10.05,-20.525) 207(10.35,-20.525) 208(10.65,-20.525) 209(10.95,-20.525) 210(11.25,-20.525) 211(11.55,-20.525) 212(11.85,-20.525) 213(12.15,-20.525) 214(12.45,-20.525) 215(12.75,-20.525) 216(13.05,-20.525) 345(13.05,20.525) 346(12.75,20.525) 347(12.45,20.525) 348(12.15,20.525) 349(11.85,20.525) 350(11.55,20.525) 351(11.25,20.525) 352(10.95,20.525) 353(10.65,20.525) 354(10.35,20.525) 355(10.05,20.525) 356(9.75,20.525) 357(9.45,20.525) 358(9.15,20.525) 359(8.85,20.525) 360(8.55,20.525) 361(8.25,20.525) 362(7.95,20.525) 363(7.65,20.525) 364(7.35,20.525) 365(7.05,20.525) 366(6.75,20.525) 367(6.45,20.525) 368(6.15,20.525) 369(5.85,20.525) 370(5.55,20.525) 371(5.25,20.525) 372(4.95,20.525) 373(4.65,20.525) 374(4.35,20.525) 375(4.05,20.525) 376(3.75,20.525) 377(3.45,20.525) 378(3.15,20.525) 379(2.85,20.525) 380(2.55,20.525) 381(2.25,20.525) 382(1.95,20.525) 383(1.65,20.525) 384(1.35,20.525) 385(1.05,20.525) 386(0.75,20.525) 387(0.45,20.525) 388(0.15,20.525) 389(-0.15,20.525) 390(-0.45,20.525) 391(-0.75,20.525) 392(-1.05,20.525) 393(-1.35,20.525) 394(-1.65,20.525) 395(-1.95,20.525) 396(-2.25,20.525) 397(-2.55,20.525) 398(-2.85,20.525) 399(-3.15,20.525) 400(-3.45,20.525) 401(-3.75,20.525) 402(-4.05,20.525) 403(-4.35,20.525) 404(-4.65,20.525) 405(-4.95,20.525) 406(-5.25,20.525) 407(-5.55,20.525) 408(-5.85,20.525) 409(-6.15,20.525) 410(-6.45,20.525) 411(-6.75,20.525) 412(-7.05,20.525) 413(-7.35,20.525) 414(-7.65,20.525) 415(-7.95,20.525) 416(-8.25,20.525) 417(-8.55,20.525) 418(-8.85,20.525) 419(-9.15,20.525) 420(-9.45,20.525) 421(-9.75,20.525) 422(-10.05,20.525) 423(-10.35,20.525) 424(-10.65,20.525) 425(-10.95,20.525) 426(-11.25,20.525) 427(-11.55,20.525) 428(-11.85,20.525) 429(-12.15,20.525) 430(-12.45,20.525) 431(-12.75,20.525) 432(-13.05,20.525)
Top Overlay:
  circle w0.25: c-14.525,19.67 r0.125
  circle w0.6: c-12.35,18.35 r0.3
  lines w0.2: -13.35,-19.35 -13.35,19.35 13.35,19.35 13.35,-19.35 -13.35,-19.35
Mechanical 13:
  circle w0.1: c-13.1,19.1 r0.5
  lines w0.1: -14,-20 -14,20 14,20 14,-20 -14,-20
Mechanical 15:
  lines w0.1: -0.5,0 0.5,0 ; 0,-0.5 0,0.5 ; -15.4,-21.4 -15.4,21.4 15.4,21.4 15.4,-21.4 -15.4,-21.4
3D body: height 4.2, standoff 0, extent -14,-20 14,20